# EAGLE library part A4988 (library JetsonProj)
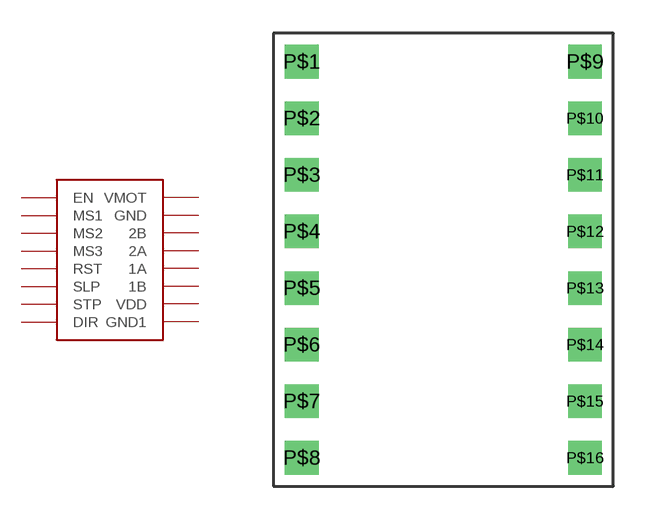
[diagram p9: symbol with the pads of A4988; footprint A4988]

Designator prefix -

## A4988  [A4988]
P$1  EN
P$2  MS1
P$3  MS2
P$4  MS3
P$5  RST
P$6  SLP
P$7  STP
P$8  DIR
P$9  VMOT
P$10  GND
P$11  2B
P$12  2A
P$13  1A
P$14  1B
P$15  VDD
P$16  GND1

## Footprint A4988 (pad centres in mm)
drill 1 square: P$1 1.27,19.05; P$2 1.27,16.51; P$3 1.27,13.97; P$4 1.27,11.43; P$5 1.27,8.89; P$6 1.27,6.35; P$7 1.27,3.81; P$8 1.27,1.27; P$9 13.97,19.05; P$10 13.97,16.51; P$11 13.97,13.97; P$12 13.97,11.43; P$13 13.97,8.89; P$14 13.97,6.35; P$15 13.97,3.81; P$16 13.97,1.27